# EAGLE library part DRV8312 (library DRV8312)
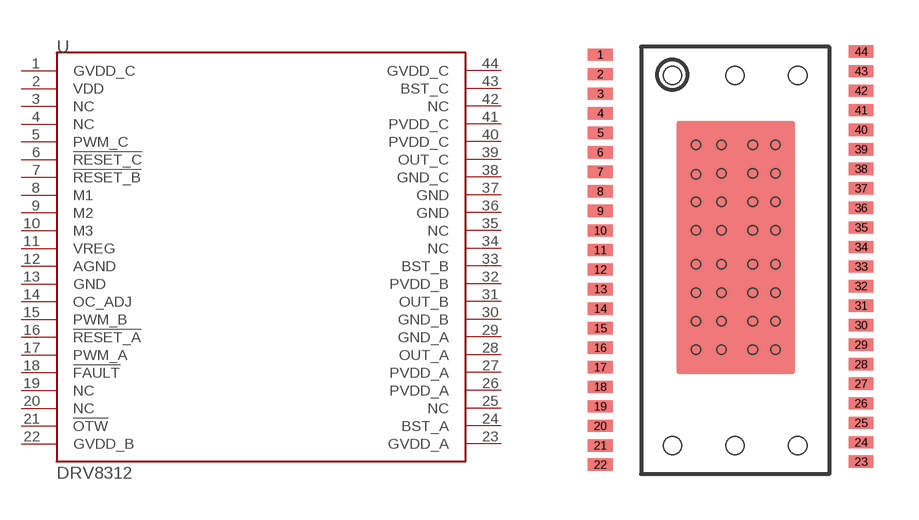
[diagram p0: symbol with the pads of DDW; footprint DDW]

Designator prefix -

## DRV8312  [DDW]
1  GVDD_C  pwr
2  VDD  pwr
3  NC  nc
4  NC  nc
5  PWM_C  in
6  !RESET_C  in
7  !RESET_B  in
8  M1  in
9  M2  in
10  M3  in
11  VREG  pwr
12  AGND  pwr
13  GND  pwr
14  OC_ADJ
15  PWM_B  in
16  !RESET_A  in
17  PWM_A  in
18  !FAULT  out
19  NC  nc
20  NC  nc
21  !OTW
22  GVDD_B  pwr
23  GVDD_A  pwr
24  BST_A
25  NC  nc
26  PVDD_A
27  PVDD_A
28  OUT_A  pwr
29  GND_A  pwr
30  GND_B  pwr
31  OUT_B  pwr
32  PVDD_B
33  BST_B
34  NC  nc
35  NC  nc
36  GND  pwr
37  GND  pwr
38  GND_C  pwr
39  OUT_C  pwr
40  PVDD_C
41  PVDD_C
42  NC  nc
43  BST_C
44  GVDD_C  pwr

## Footprint DDW (pad centres in mm)
smd 0.813 x 0.406: 1 -1.345,13.845; 2 -1.345,13.2; 3 -1.345,12.555; 4 -1.345,11.91; 5 -1.345,11.265; 6 -1.345,10.62; 7 -1.345,9.975; 8 -1.345,9.33; 9 -1.345,8.685; 10 -1.345,8.04; 11 -1.345,7.395; 12 -1.345,6.75; 13 -1.345,6.105; 14 -1.345,5.46; 15 -1.345,4.815; 16 -1.345,4.17; 17 -1.345,3.525; 18 -1.345,2.88; 19 -1.345,2.235; 20 -1.345,1.59; 21 -1.345,0.945; 22 -1.345,0.31; 23 7.255,0.41; 24 7.255,1.045; 25 7.255,1.69; 26 7.255,2.335; 27 7.255,2.98; 28 7.255,3.625; 29 7.255,4.27; 30 7.255,4.915; 31 7.255,5.56; 32 7.255,6.205; 33 7.255,6.85; 34 7.255,7.495; 35 7.255,8.14; 36 7.255,8.785; 37 7.255,9.43; 38 7.255,10.075; 39 7.255,10.72; 40 7.255,11.365; 41 7.255,12.01; 42 7.255,12.655; 43 7.255,13.3; 44 7.255,13.945
hole 0.3 at 1.808,10.863
hole 0.3 at 2.658,10.863
hole 0.3 at 1.808,9.887
hole 0.3 at 2.658,9.925
hole 0.3 at 1.808,8.988
hole 0.3 at 1.808,8.05
hole 0.3 at 2.658,8.05
hole 0.3 at 2.658,8.988
hole 0.3 at 3.683,10.863
hole 0.3 at 4.433,10.863
hole 0.3 at 3.683,9.925
hole 0.3 at 4.433,9.925
hole 0.3 at 3.683,8.988
hole 0.3 at 3.683,8.05
hole 0.3 at 4.433,8.05
hole 0.3 at 4.433,8.988
hole 0.3 at 1.808,6.925
hole 0.3 at 2.658,6.925
hole 0.3 at 1.808,5.987
hole 0.3 at 2.658,5.987
hole 0.3 at 1.808,5.05
hole 0.3 at 1.808,4.112
hole 0.3 at 2.658,4.112
hole 0.3 at 2.658,5.05
hole 0.3 at 3.683,6.925
hole 0.3 at 4.433,6.925
hole 0.3 at 3.683,5.987
hole 0.3 at 4.433,5.987
hole 0.3 at 3.683,5.05
hole 0.3 at 3.683,4.112
hole 0.3 at 4.433,4.112
hole 0.3 at 4.433,5.05
hole 0.6 at 1.033,0.94
hole 0.6 at 3.1,0.94
hole 0.6 at 5.167,0.94
hole 0.6 at 1.033,13.16
hole 0.6 at 3.1,13.16
hole 0.6 at 5.167,13.16